# EAGLE library part CH340G (library MF_IC_Digital)
Manufacturer Part #: CH340G Manufacturer: WCH-IC Description: USB Interface IC USB to Serial UART
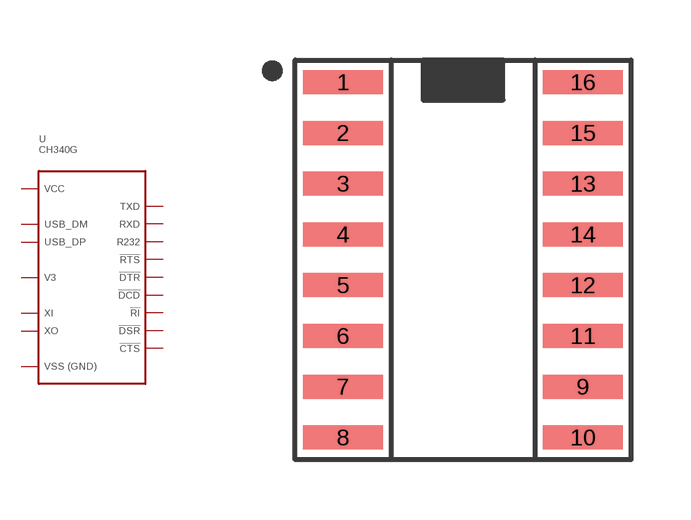
[diagram p8: symbol with the pads of SOIC16; footprint SOIC16]

Designator prefix U

## CH340G  [SOIC16]
1  GND
2  TXD
3  RXD
4  V3
5  USBDM
6  USBDP
7  XI
8  XO
9  !CTS
10  !DSR
11  !RI
12  !DCD
13  !DTR
14  !RTS
15  R232
16  VCC

## Footprint SOIC16 (pad centres in mm)
Description: Standard SOIC-16 Package.
smd 2 x 0.6: 1 -3,4.445; 2 -3,3.175; 3 -3,1.905; 4 -3,0.635; 5 -3,-0.635; 6 -3,-1.905; 7 -3,-3.175; 8 -3,-4.445; 9 3,-3.175; 10 3,-4.445; 11 3,-1.905; 12 3,-0.635; 13 3,1.905; 14 3,0.635; 15 3,3.175; 16 3,4.445